# EAGLE library part MICROSD (library MICROSD)
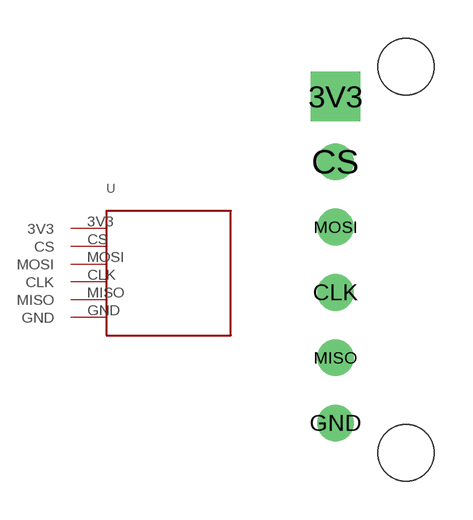
[diagram p0: symbol with the pads of MICROSD_FOOTPRINT; footprint MICROSD_FOOTPRINT]

Designator prefix -

## MICROSDMICROSD2  [MICROSD_FOOTPRINT]
3V3  3V3
CLK  CLK
CS  CS
GND  GND
MISO  MISO
MOSI  MOSI

## Footprint MICROSD_FOOTPRINT (pad centres in mm)
drill 0.7 pad 1.93 square: 3V3 -15.24,6.35
drill 0.7 pad 1.422: CLK -15.24,-1.27; CS -15.24,3.81; GND -15.24,-6.35; MISO -15.24,-3.81; MOSI -15.24,1.27
hole 2.2 at -12.5,7.5
hole 2.2 at -12.5,-7.5